# Altium footprint library lib.PcbLib: 23 footprints (part 1 of 2)
Each footprint in its own frame and in the unit in brackets; x right, y up, seen from the top. Pads: shape width x height; smd on the part's side, far side on the other; paste and mask are expansions set on the pad; w line width, h text height; cw(c..) or ccw(c..) is an arc to the next point about the centre after c.
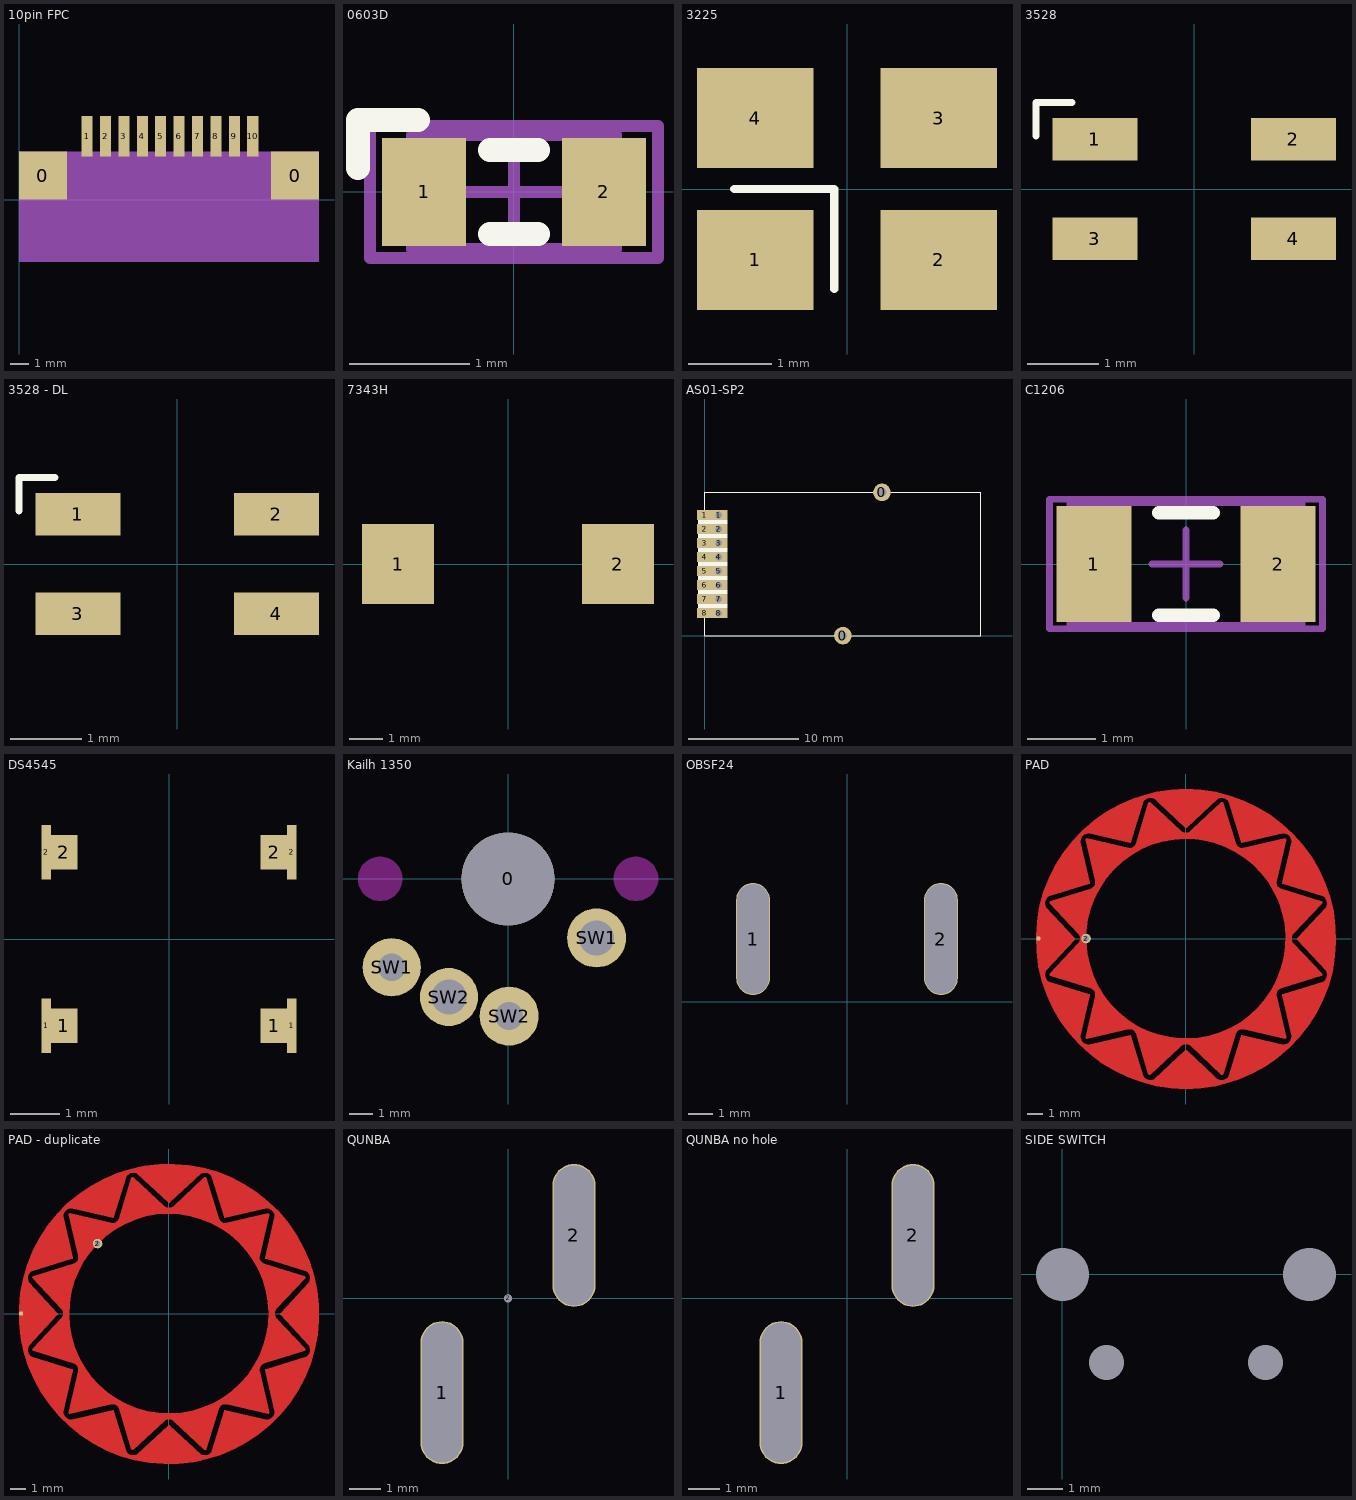
[diagram p0: the footprints below, top view; thin cyan lines are the x and y axes]

## 10pin FPC [mm]
pads (12):
  rect 2.6x2.6 smd: 0(1.3,1.3) 0(15,1.3)
  rect 0.6x2.2 smd: 1(3.7,3.45) 2(4.7,3.45) 3(5.7,3.45) 4(6.7,3.45) 5(7.7,3.45) 6(8.7,3.45) 7(9.7,3.45) 8(10.7,3.45) 9(11.7,3.45) 10(12.7,3.45)
Mechanical 1:
  rectangle: 0,-3.4 16.3,2.6
3D body: height 0.25, standoff 0, extent 0,2.6 0,2.6
3D body: height 0.25, standoff 0, extent 15.95,2.2 15.95,2.2
3D body: height 0.25, standoff 0, extent 0,-3.4 16.3,2.6

## 0603D [mm]
pads (2):
  rect 0.7x0.9 smd: 1(-0.75,0) 2(0.75,0)
Top Overlay:
  lines w0.2: -1.3,0.2 -1.3,0.6 -0.8,0.6 ; -0.2,-0.35 0.2,-0.35 ; -0.2,0.35 0.2,0.35
Mechanical 13:
  lines w0.1: -0.85,-0.475 0.85,-0.475 0.85,0.475 -0.85,0.475 -0.85,-0.475
Mechanical 15:
  lines w0.1: -0.475,0 0.475,0 ; 0,-0.475 0,0.475 ; -1.2,-0.55 1.2,-0.55 1.2,0.55 -1.2,0.55 -1.2,-0.55
3D body: height 0.9, standoff 0, extent -0.85,-0.475 0.85,0.475

## 3225 [mm]
pads (4):
  rect 1.4x1.2 smd: 1(-1.1,-0.85) 2(1.1,-0.85) 3(1.1,0.85) 4(-1.1,0.85)
Top Overlay:
  lines w0.1: -1.352,0 -0.152,0 ; -0.152,-1.2 -0.152,-0.025
3D body "User Library-3225-1.step": height 0.61, standoff 0, extent -1.6,-1.245 1.6,1.255

## 3528 [mm]
height 5
pads (4):
  rect 1.2x0.6 smd: 1(-1.4,0.7) 2(1.4,0.7) 3(-1.4,-0.7) 4(1.4,-0.7)
Top Overlay:
  lines w0.1: -2.232,0.747 -2.232,1.222 ; -2.222,1.222 -1.727,1.222

## 3528 - DL [mm]
height 5
pads (4):
  rect 1.2x0.6 all layers, no hole: 1(-1.4,0.7) 3(-1.4,-0.7) 4(1.4,-0.7)
  rect 1.2x0.6 smd: 2(1.4,0.7)
Top Overlay:
  lines w0.1: -2.232,0.747 -2.232,1.222 ; -2.222,1.222 -1.727,1.222

## 7343H [mm]
height 4
pads (2):
  rect 2.16x2.41 smd: 1(-3.3,0) 2(3.3,0)

## AS01-SP2 [mm]
height 2.5
pads (18):
  round 1.6 hole 0.8: 0(12.52,0) 0(16.07,13)
  rect 1.4x0.9 smd: 1(0,10.94) 2(0,9.67) 3(0,8.4) 4(0,7.13) 5(0,5.86) 6(0,4.59) 7(0,3.32) 8(0,2.05)
  rect 1.6x0.9 hole 0.6: 1(1.27,10.94) 2(1.27,9.67) 3(1.27,8.4) 4(1.27,7.13) 5(1.27,5.86) 6(1.27,4.59) 7(1.27,3.32) 8(1.27,2.05)
Top Overlay:
  region: -0.6,2.86 -0.6,2.51 2.07,2.51 2.07,2.86
  region: -0.6,4.13 -0.6,3.78 2.07,3.78 2.07,4.13
  region: -0.6,5.4 -0.6,5.05 2.07,5.05 2.07,5.4
  region: -0.6,6.67 -0.6,6.32 2.07,6.32 2.07,6.67
  region: -0.6,7.94 -0.6,7.59 2.07,7.59 2.07,7.94
  region: -0.6,9.21 -0.6,8.86 2.07,8.86 2.07,9.21
  region: -0.6,10.48 -0.6,10.13 2.07,10.13 2.07,10.48
  lines w0.1: 0.02,0 0.02,13 25.02,13 25.02,0 0.02,0
Bottom Overlay:
  region: -0.6,2.86 -0.6,2.51 2.07,2.51 2.07,2.86
  region: -0.6,4.13 -0.6,3.78 2.07,3.78 2.07,4.13
  region: -0.6,5.4 -0.6,5.05 2.07,5.05 2.07,5.4
  region: -0.6,6.67 -0.6,6.32 2.07,6.32 2.07,6.67
  region: -0.6,7.94 -0.6,7.59 2.07,7.59 2.07,7.94
  region: -0.6,9.21 -0.6,8.86 2.07,8.86 2.07,9.21
  region: -0.6,10.48 -0.6,10.13 2.07,10.13 2.07,10.48
Multi-Layer:
  pour cut-out: 17,14 17,-1 26.5,-1 26.5,14

## C1206 [mm] "Chip Capacitor, Body 3.2x1.6mm, IPC High Density"
height 1.3
pads (2):
  rect 1.1x1.7 smd: 1(-1.35,0) 2(1.35,0)
Top Overlay:
  lines w0.2: -0.4,-0.75 0.4,-0.75 ; -0.4,0.75 0.4,0.75
Mechanical 13:
  lines w0.1: -1.7,-0.9 -1.7,0.9 1.7,0.9 1.7,-0.9 -1.7,-0.9
Mechanical 15:
  lines w0.1: -0.5,0 0.5,0 ; 0,-0.5 0,0.5 ; -2,-0.95 -2,0.95 2,0.95 2,-0.95 -2,-0.95
3D body: height 1.3, standoff 0, extent -1.7,-0.9 1.7,0.9

## DS4545 [mm]
pads (8):
  rect 0.2x1.1 smd: 1(-2.475,-1.75) 1(2.475,-1.75) 2(-2.475,1.75) 2(2.475,1.75)
  rect 0.55x0.7 smd: 1(-2.125,-1.75) 1(2.125,-1.75) 2(-2.125,1.75) 2(2.125,1.75)

## Kailh 1350 [mm]
height 14
pads (5):
  round 4 hole 4: 0(0,0)
  round 2.5 hole 1.2: SW1(-5,-3.8)
  round 2.54 hole 1.5: SW1(3.81,-2.54)
  round 2.5 hole 1.5: SW2(-2.54,-5.08)
  round 2.54 hole 1.2: SW2(0.051,-5.9)
Keep-Out Layer:
  board cut-out: 4.55,0 4.55,-0.094 4.587,-0.277 4.658,-0.45 4.762,-0.606 4.894,-0.738 5.05,-0.842 5.223,-0.913 5.406,-0.95 5.5,-0.95 5.594,-0.95 5.777,-0.913 5.95,-0.842 6.106,-0.738 6.238,-0.606 6.342,-0.45 6.413,-0.277 6.45,-0.094 6.45,0 6.45,0.094 6.413,0.277 6.342,0.45 6.238,0.606 6.106,0.738 5.95,0.842 5.777,0.913 5.594,0.95 5.5,0.95 5.406,0.95 5.223,0.913 5.05,0.842 4.894,0.738 4.762,0.606 4.658,0.45 4.587,0.277 4.55,0.094
  board cut-out: -5.5,-0.95 -5.594,-0.95 -5.777,-0.913 -5.95,-0.842 -6.106,-0.738 -6.238,-0.606 -6.342,-0.45 -6.413,-0.277 -6.45,-0.094 -6.45,0 -6.45,0.094 -6.413,0.277 -6.342,0.45 -6.238,0.606 -6.106,0.738 -5.95,0.842 -5.777,0.913 -5.594,0.95 -5.5,0.95 -5.406,0.95 -5.223,0.913 -5.05,0.842 -4.894,0.738 -4.762,0.606 -4.658,0.45 -4.587,0.277 -4.55,0.094 -4.55,0 -4.55,-0.094 -4.587,-0.277 -4.658,-0.45 -4.762,-0.606 -4.894,-0.738 -5.05,-0.842 -5.223,-0.913 -5.406,-0.95

## OBSF24 [mil] "OBSF24"
height 1220.47
pads (2):
  oval 54x179 / inner oval 54x179 / far side oval 90x215 hole 50 slot 175 at 90 deg: 1(-150,100) 2(150,100)

## PAD [mm]
pads (2):
  rrect50% 0.254x0.254 smd paste+0 mask+0: 1(-9.318,0.003)
  round 0.6 hole 0.381 paste+0 mask+0: 2(-6.3,0)
Top Layer:
  region: -6.326,-6.235 -6.326,-6.253 -6.312,-6.286 -6.286,-6.312 -6.253,-6.326 -6.235,-6.326 -3.644,-5.727 -3.564,-5.714 -3.404,-5.735 -3.264,-5.815 -3.166,-5.943 -3.138,-6.019 -2.361,-8.562 -2.352,-8.578 -2.323,-8.6 -2.288,-8.609 -2.252,-8.605 -2.237,-8.596 0,-6.509 0,-6.299 -0.358,-6.289 -1.071,-6.208 -1.769,-6.046 -2.444,-5.806 -3.088,-5.49 -3.692,-5.104 -4.248,-4.652 -4.749,-4.139 -5.188,-3.572 -5.561,-2.96 -5.861,-2.309 -6.085,-1.628 -6.231,-0.926 -6.296,-0.212 -6.279,0.504 -6.181,1.215 -6.003,1.909 -5.747,2.579 -5.417,3.215 -5.017,3.81 -4.552,4.355 -4.027,4.844 -3.451,5.27 -2.83,5.628 -2.172,5.913 -1.486,6.121 -0.781,6.251 -0.066,6.299 0.293,6.293 0.293,6.782 0.23,6.73 0.081,6.668 -0.081,6.668 -0.23,6.73 -0.292,6.782 -2.237,8.595 -2.252,8.604 -2.288,8.609 -2.323,8.6 -2.352,8.578 -2.361,8.562 -3.138,6.019 -3.166,5.943 -3.264,5.815 -3.404,5.735 -3.564,5.714 -3.644,5.727 -6.235,6.326 -6.253,6.326 -6.286,6.312 -6.312,6.286 -6.326,6.253 -6.326,6.234 -6.326,6.235 -5.727,3.644 -5.713,3.564 -5.735,3.404 -5.815,3.264 -5.943,3.166 -6.019,3.138 -8.562,2.361 -8.578,2.352 -8.6,2.323 -8.609,2.288 -8.604,2.252 -8.595,2.237 -6.782,0.293 -6.73,0.23 -6.668,0.081 -6.668,-0.081 -6.73,-0.23 -6.782,-0.293 -8.595,-2.236 -8.605,-2.252 -8.609,-2.288 -8.6,-2.323 -8.578,-2.352 -8.562,-2.361 -6.019,-3.138 -5.943,-3.166 -5.815,-3.264 -5.735,-3.404 -5.714,-3.564 -5.727,-3.644
  region: -1.989,9.218 -1.989,8.826 -2.08,8.867 -2.279,8.893 -2.473,8.841 -2.632,8.719 -2.691,8.637 -3.468,6.094 -3.472,6.08 -3.489,6.057 -3.515,6.043 -3.543,6.039 -3.557,6.043 -6.148,6.641 -6.248,6.632 -6.434,6.555 -6.576,6.413 -6.652,6.228 -6.662,6.127 -6.063,3.536 -6.06,3.522 -6.064,3.494 -6.078,3.468 -6.101,3.451 -6.115,3.447 -8.658,2.67 -8.74,2.612 -8.862,2.452 -8.914,2.259 -8.888,2.06 -8.846,1.968 -7.032,0.024 -7.022,0.013 -7.011,-0.013 -7.011,-0.043 -7.022,-0.07 -7.032,-0.08 -8.846,-2.024 -8.888,-2.116 -8.914,-2.315 -8.862,-2.508 -8.74,-2.667 -8.658,-2.726 -6.115,-3.503 -6.101,-3.507 -6.078,-3.524 -6.063,-3.55 -6.06,-3.579 -6.063,-3.593 -6.662,-6.183 -6.652,-6.283 -6.576,-6.469 -6.434,-6.611 -6.248,-6.688 -6.148,-6.697 -3.557,-6.099 -3.543,-6.095 -3.515,-6.099 -3.489,-6.113 -3.472,-6.136 -3.468,-6.15 -2.691,-8.693 -2.632,-8.775 -2.473,-8.897 -2.279,-8.949 -2.08,-8.923 -1.989,-8.882 -0.045,-7.068 -0.034,-7.057 -0.007,-7.046 0.022,-7.046 0.049,-7.057 0.059,-7.068 2.339,-9.195 1.883,-9.311 0.954,-9.451 0.015,-9.499 -0.924,-9.453 -1.854,-9.314 -2.766,-9.083 -3.65,-8.764 -4.498,-8.358 -5.302,-7.871 -6.053,-7.305 -6.745,-6.669 -7.37,-5.966 -7.923,-5.206 -8.397,-4.394 -8.788,-3.539 -9.093,-2.65 -9.308,-1.735 -9.431,-0.803 -9.462,0.137 -9.399,1.075 -9.243,2.002 -8.996,2.91 -8.66,3.788 -8.239,4.628 -7.737,5.423 -7.158,6.164 -6.509,6.844 -5.796,7.456 -5.025,7.995 -4.205,8.454 -3.343,8.83 -2.448,9.119
  region: 2.003,-9.274 2.003,-8.882 2.095,-8.923 2.294,-8.949 2.488,-8.897 2.647,-8.775 2.706,-8.693 3.482,-6.15 3.486,-6.136 3.504,-6.113 3.529,-6.099 3.558,-6.095 3.572,-6.099 6.163,-6.697 6.263,-6.688 6.448,-6.611 6.59,-6.469 6.667,-6.284 6.677,-6.183 6.078,-3.592 6.074,-3.578 6.078,-3.55 6.093,-3.525 6.116,-3.507 6.13,-3.503 8.672,-2.726 8.754,-2.668 8.876,-2.508 8.928,-2.315 8.902,-2.116 8.861,-2.024 7.047,-0.08 7.036,-0.069 7.025,-0.043 7.025,-0.013 7.036,0.013 7.047,0.024 8.861,1.968 8.902,2.06 8.928,2.258 8.876,2.452 8.754,2.611 8.672,2.67 6.13,3.447 6.116,3.451 6.092,3.468 6.078,3.494 6.074,3.522 6.078,3.537 6.677,6.127 6.667,6.227 6.59,6.413 6.448,6.555 6.263,6.631 6.163,6.641 3.572,6.042 3.558,6.039 3.529,6.042 3.504,6.057 3.486,6.08 3.482,6.094 2.706,8.637 2.647,8.719 2.488,8.841 2.294,8.893 2.095,8.867 2.003,8.825 0.059,7.012 0.049,7.001 0.022,6.99 -0.007,6.99 -0.034,7.001 -0.045,7.012 -2.324,9.139 -1.869,9.255 -0.939,9.395 0,9.442 0.939,9.397 1.869,9.258 2.78,9.027 3.664,8.708 4.513,8.302 5.316,7.814 6.068,7.249 6.759,6.613 7.385,5.91 7.937,5.15 8.411,4.338 8.803,3.483 9.108,2.594 9.323,1.678 9.446,0.746 9.476,-0.193 9.413,-1.131 9.257,-2.058 9.011,-2.966 8.675,-3.844 8.254,-4.684 7.752,-5.479 7.173,-6.22 6.524,-6.9 5.81,-7.512 5.039,-8.051 4.219,-8.51 3.357,-8.886 2.463,-9.175
  region: 0.293,-6.782 2.236,-8.596 2.252,-8.605 2.287,-8.61 2.322,-8.602 2.35,-8.581 2.36,-8.565 3.138,-6.019 3.166,-5.943 3.264,-5.815 3.404,-5.735 3.564,-5.714 3.644,-5.727 6.235,-6.326 6.253,-6.326 6.286,-6.312 6.312,-6.286 6.326,-6.253 6.326,-6.235 5.727,-3.644 5.714,-3.564 5.735,-3.404 5.815,-3.264 5.943,-3.166 6.019,-3.137 8.562,-2.361 8.578,-2.352 8.6,-2.323 8.609,-2.288 8.604,-2.252 8.595,-2.236 6.782,-0.293 6.73,-0.23 6.669,-0.081 6.669,0.081 6.73,0.23 6.782,0.293 8.596,2.237 8.605,2.252 8.609,2.288 8.6,2.323 8.578,2.352 8.562,2.361 6.019,3.138 5.943,3.166 5.815,3.264 5.735,3.404 5.714,3.564 5.727,3.644 6.326,6.235 6.326,6.253 6.312,6.286 6.286,6.312 6.253,6.326 6.235,6.326 3.644,5.727 3.564,5.714 3.404,5.735 3.264,5.815 3.166,5.943 3.138,6.019 2.361,8.562 2.352,8.578 2.323,8.6 2.288,8.609 2.252,8.605 2.236,8.595 0,6.509 0,6.299 0.358,6.289 1.071,6.208 1.769,6.046 2.444,5.806 3.088,5.49 3.692,5.104 4.248,4.652 4.749,4.139 5.188,3.572 5.561,2.96 5.861,2.309 6.085,1.628 6.231,0.926 6.296,0.212 6.279,-0.504 6.181,-1.215 6.003,-1.909 5.747,-2.579 5.417,-3.215 5.017,-3.81 4.552,-4.355 4.027,-4.844 3.451,-5.27 2.83,-5.628 2.172,-5.913 1.486,-6.121 0.781,-6.251 0.066,-6.299 -0.293,-6.293 -0.293,-6.782 -0.23,-6.73 -0.081,-6.668 0.081,-6.668 0.23,-6.73

## PAD - duplicate [mil]
pads (2):
  rrect50% 10x10 smd paste+0 mask+0: 1(-366.86,0.1)
  round 23.62 hole 15 paste+0 mask+0: 2(-177.05,173.67)
Top Layer:
  region: -249.04,-245.46 -249.04,-246.17 -248.5,-247.49 -247.49,-248.5 -246.17,-249.04 -245.46,-249.04 -143.47,-225.47 -140.32,-224.95 -134.02,-225.77 -128.52,-228.95 -124.65,-233.98 -123.53,-236.97 -92.95,-337.08 -92.59,-337.7 -91.47,-338.57 -90.09,-338.94 -88.68,-338.76 -88.06,-338.41 -11.52,-267 -11.52,-247.74 -25.39,-246.7 -52.85,-242.31 -79.65,-234.87 -105.45,-224.47 -129.92,-211.26 -152.75,-195.38 -173.67,-177.05 -192.4,-156.49 -208.71,-133.97 -222.4,-109.75 -233.29,-84.16 -241.25,-57.51 -246.17,-30.14 -248,-2.39 -246.7,25.39 -242.31,52.85 -234.87,79.65 -224.47,105.45 -211.26,129.92 -195.38,152.75 -177.05,173.67 -156.49,192.4 -133.97,208.71 -109.76,222.4 -84.16,233.29 -57.52,241.24 -30.14,246.17 -2.39,247.99 11.52,247.74 11.52,266.99 9.05,264.97 3.18,262.53 -3.17,262.53 -9.04,264.97 -11.51,266.99 -88.06,338.4 -88.67,338.76 -90.09,338.94 -91.46,338.58 -92.59,337.71 -92.95,337.09 -123.53,236.98 -124.65,233.99 -128.52,228.95 -134.02,225.77 -140.31,224.94 -143.46,225.46 -245.46,249.04 -246.17,249.04 -247.49,248.49 -248.5,247.48 -249.04,246.17 -249.04,245.45 -225.46,143.47 -224.94,140.32 -225.77,134.02 -228.94,128.52 -233.98,124.65 -236.97,123.52 -337.09,92.95 -337.71,92.59 -338.58,91.46 -338.95,90.08 -338.76,88.67 -338.4,88.06 -266.99,11.52 -264.97,9.05 -262.53,3.18 -262.53,-3.18 -264.97,-9.05 -266.99,-11.52 -338.4,-88.04 -338.76,-88.66 -338.95,-90.07 -338.58,-91.45 -337.71,-92.58 -337.09,-92.94 -236.98,-123.53 -233.99,-124.65 -228.95,-128.52 -225.77,-134.02 -224.94,-140.31 -225.46,-143.46
  region: -74,363.81 -74,344.15 -75.73,345.71 -79.66,348.18 -84.05,349.7 -88.67,350.17 -93.28,349.58 -97.63,347.95 -101.49,345.38 -104.67,341.99 -105.95,340.04 -136.53,239.92 -136.68,239.37 -137.38,238.46 -138.37,237.9 -139.51,237.75 -140.06,237.9 -242.05,261.47 -246,261.08 -253.3,258.06 -258.88,252.48 -261.9,245.18 -262.29,241.24 -238.72,139.23 -238.57,138.67 -238.72,137.54 -239.29,136.55 -240.2,135.86 -240.75,135.71 -340.85,105.13 -344.08,102.82 -348.89,96.55 -350.94,88.92 -349.91,81.09 -348.27,77.47 -276.86,0.93 -276.45,0.53 -276.01,-0.53 -276.01,-1.68 -276.45,-2.74 -276.86,-3.14 -348.27,-79.68 -349.91,-83.29 -350.94,-91.12 -348.9,-98.75 -344.09,-105.02 -340.86,-107.33 -240.75,-137.91 -240.2,-138.06 -239.29,-138.76 -238.72,-139.75 -238.57,-140.89 -238.72,-141.44 -262.29,-243.43 -261.9,-247.38 -258.88,-254.68 -253.3,-260.27 -246,-263.29 -242.05,-263.68 -140.06,-240.1 -139.5,-239.95 -138.37,-240.1 -137.38,-240.67 -136.68,-241.58 -136.53,-242.14 -105.95,-342.25 -103.63,-345.48 -97.37,-350.29 -89.74,-352.33 -81.91,-351.3 -78.29,-349.67 -1.76,-278.25 -1.35,-277.85 -0.29,-277.41 0.86,-277.41 1.92,-277.85 2.32,-278.25 78.86,-349.67 78.86,-365.11 60.91,-368.99 24.42,-373.17 -12.3,-373.74 -48.9,-370.69 -85.02,-364.06 -120.32,-353.91 -154.44,-340.33 -187.06,-323.46 -217.87,-303.47 -246.56,-280.54 -272.85,-254.9 -296.5,-226.79 -317.26,-196.5 -334.94,-164.31 -349.37,-130.54 -360.41,-95.51 -367.95,-59.56 -371.91,-23.05 -372.27,13.67 -369.01,50.25 -362.16,86.34 -351.8,121.57 -338.02,155.62 -320.96,188.14 -300.79,218.83 -277.69,247.38 -251.89,273.52 -223.65,297 -193.24,317.59 -160.94,335.08 -127.09,349.31 -91.99,360.14
  region: 74,-366.13 74,-345.76 75.7,-347.42 79.62,-350.09 84.06,-351.78 88.77,-352.38 93.49,-351.87 97.97,-350.28 101.94,-347.69 105.21,-344.24 106.52,-342.25 137.1,-242.13 137.25,-241.58 137.95,-240.67 138.94,-240.1 140.08,-239.96 140.63,-240.11 242.63,-263.68 246.57,-263.29 253.87,-260.27 259.45,-254.69 262.47,-247.39 262.86,-243.44 239.29,-141.43 239.14,-140.88 239.29,-139.75 239.87,-138.76 240.77,-138.07 241.32,-137.92 341.42,-107.34 344.65,-105.02 349.46,-98.76 351.51,-91.13 350.48,-83.3 348.84,-79.68 277.43,-3.14 277.02,-2.74 276.59,-1.68 276.59,-0.53 277.02,0.53 277.43,0.93 348.84,77.47 350.48,81.09 351.51,88.92 349.47,96.54 344.66,102.81 341.43,105.12 341.44,105.12 241.32,135.7 240.77,135.85 239.86,136.55 239.29,137.54 239.14,138.68 239.29,139.23 262.86,241.22 262.47,245.17 259.45,252.47 253.87,258.06 246.57,261.08 242.63,261.47 140.63,237.89 140.08,237.74 138.94,237.89 137.95,238.47 137.25,239.37 137.1,239.93 106.52,340.05 104.21,343.27 97.94,348.08 90.31,350.13 82.48,349.1 78.86,347.46 2.33,276.05 1.92,275.64 0.86,275.2 -0.28,275.2 -1.35,275.64 -1.75,276.05 -78.29,347.46 -78.29,362.91 -60.33,366.78 -23.83,370.96 12.91,371.53 49.53,368.48 85.67,361.83 120.98,351.67 155.12,338.07 187.75,321.19 218.57,301.17 247.26,278.21 273.55,252.55 297.19,224.42 317.95,194.1 335.62,161.88 350.04,128.08 361.05,93.03 368.57,57.06 372.5,20.53 372.83,-16.22 369.53,-52.81 362.65,-88.91 352.24,-124.15 338.42,-158.2 321.32,-190.72 301.1,-221.4 277.95,-249.94 252.11,-276.06 223.82,-299.51 193.36,-320.06 161.03,-337.52 127.14,-351.71 92.01,-362.49
  region: 11.52,-267 88.04,-338.41 88.64,-338.77 90.03,-338.99 91.4,-338.65 92.53,-337.82 92.9,-337.22 92.94,-337.09 123.53,-236.97 124.65,-233.98 128.52,-228.94 134.03,-225.77 140.33,-224.94 143.48,-225.47 245.46,-249.04 246.17,-249.04 247.49,-248.49 248.5,-247.49 249.04,-246.17 249.04,-245.46 225.47,-143.46 224.95,-140.31 225.78,-134.01 228.96,-128.51 234,-124.65 236.98,-123.52 337.08,-92.94 337.7,-92.58 338.57,-91.45 338.94,-90.07 338.75,-88.66 338.4,-88.04 267,-11.52 264.97,-9.05 262.54,-3.18 262.54,3.18 264.97,9.05 267,11.52 338.41,88.06 338.76,88.68 338.95,90.09 338.58,91.46 337.71,92.59 337.09,92.95 236.97,123.53 233.98,124.65 228.95,128.52 225.77,134.02 224.95,140.32 225.47,143.47 249.04,245.46 249.04,246.17 248.5,247.49 247.49,248.5 246.17,249.04 245.46,249.04 143.46,225.46 140.31,224.94 134.02,225.77 128.52,228.95 124.65,233.99 123.53,236.98 92.94,337.1 92.58,337.71 91.45,338.58 90.07,338.95 88.66,338.76 88.04,338.4 11.52,266.99 11.52,247.74 25.39,246.7 52.85,242.31 79.65,234.87 105.45,224.47 129.92,211.26 152.75,195.38 173.67,177.05 192.4,156.49 208.71,133.97 222.4,109.76 233.29,84.17 241.25,57.52 246.17,30.14 248,2.39 246.7,-25.39 242.31,-52.85 234.87,-79.65 224.47,-105.45 211.26,-129.92 195.38,-152.75 177.05,-173.67 156.49,-192.4 133.97,-208.71 109.75,-222.4 84.16,-233.29 57.51,-241.24 30.14,-246.17 2.39,-247.99 -11.52,-247.74 -11.52,-267 -9.05,-264.97 -3.18,-262.54 3.18,-262.54 9.05,-264.97

## QUNBA [mil]
pads (3):
  oval 54x179 / inner oval 54x179 / far side oval 90x215 hole 50 slot 175 at 90 deg: 1(-82.68,-118.11) 2(82.68,78.74)
  round 10 hole 10 mask+0: 2(0,0)

## QUNBA no hole [mm]
pads (2):
  oval 1.372x4.547 / inner oval 1.372x4.547 / far side oval 2.286x5.461 hole 1.27 slot 4.445 at 90 deg: 1(-2.1,-3) 2(2.1,2)

## SIDE SWITCH [mm]
pads (4):
  round 0 / inner round 0 / far side round 1.3 hole 1: 1(1.25,-2.5) 2(5.75,-2.5)
  round 0 / inner round 1.5 / far side round 1.8 hole 1.5 mask+0: 3(0,0)
  round 0 / inner round 0 / far side round 1.8 hole 1.5: 4(7,0)